# Altium schematic symbol library UWRT_Schematic_Library_2020.SchLib: 766 symbols (part 6 of 8)
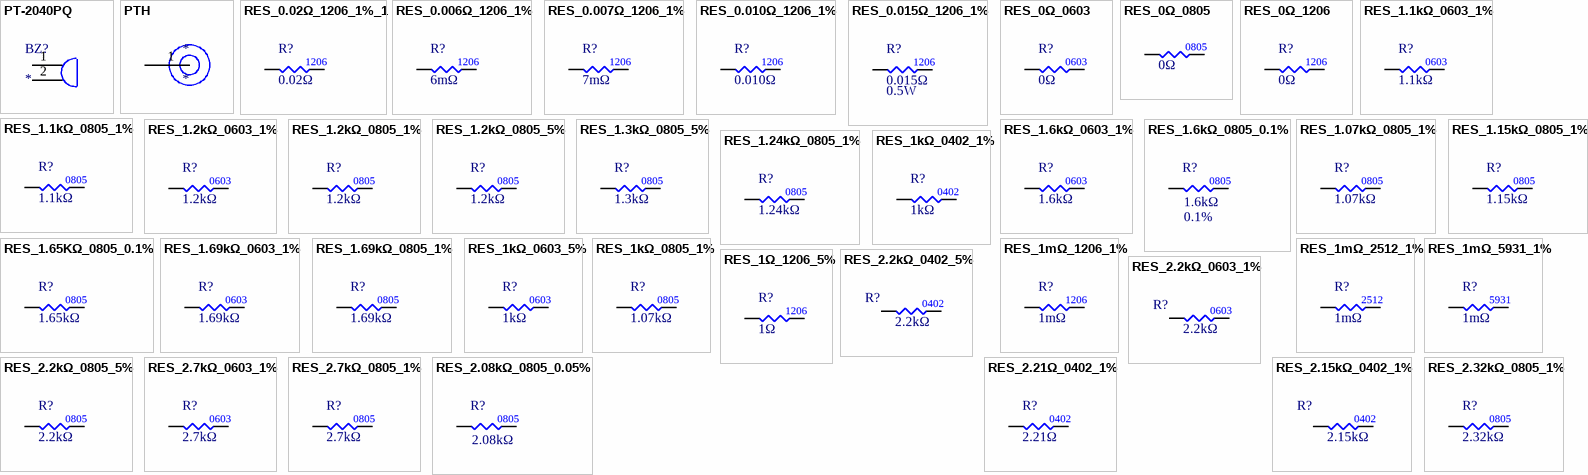
[diagram p30: symbols PT-2040PQ to RES_2.32kΩ_0805_1%]

## RES_0.007Ω_1206_1%
designator R?  value 7mΩ
RES 0.007 OHM 1% 1W 1206; Manufacturer 1: Rohm Semiconductor; Manufacturer Part Number 1: PMR18EZPFU7L00; Package/Footprint: 1206; Mounting Type: SMD; Supplier 1: Digi-Key; Supplier Part Number 1: RHM.007ALCT-ND
footprint RES1206 (Chip Resistor, Body 3.2x1.6mm, IPC Medium Density)
pins: 1, 2

## RES_0.010Ω_1206_1%
designator R?  value 0.010Ω
RES 0.01 OHM 1% 1/2W 1206; Manufacturer 1: Stackpole Electronics Inc; Manufacturer Part Number 1: CSR1206FT10L0; Package/Footprint: 1206; Mounting Type: SMD; Supplier 1: Digi-Key; Supplier Part Number 1: CSR1206FT10L0CT-ND
footprint RES1206 (Chip Resistor, Body 3.2x1.6mm, IPC Medium Density)
pins: 1, 2

## RES_0.015Ω_1206_1%
designator R?  value 0.015Ω  Power: 0.5W
RES 0.015 OHM 1% 1/2W 1206; Manufacturer 1: Yageo; Manufacturer Part Number 1: CSR1206FK15L0; Supplier Part Number 1: CSR1206FK15L0CT-ND; Supplier 1: Digi-Key
footprint RES1206 (Chip Resistor, Body 3.2x1.6mm, IPC Medium Density)
pins: 1, 2
text: 1206

## RES_0Ω_0603
designator R?  value 0Ω
RES 0 OHM JUMPER 1/10W 0603; Manufacturer 1: Yageo; Manufacturer Part Number 1: RC0603JR-070RL; Supplier Part Number 1: 311-0.0GRCT-ND; Supplier 1: Digi-Key; Mounting Type: SMD; Package: 0603
footprint RES0603 (Chip Resistor, Body 1.6x0.8mm, IPC Medium Density)
pins: 1, 2

## RES_0Ω_0805
designator R?  value 0Ω
RES 0 OHM JUMPER 1/8W 0805; Manufacturer 1: YAGEO; Manufacturer Part Number 1: RC0805JR-070RL; Package/Footprint: 0805; Supplier Part Number 1: 311-0.0ARCT-ND; Supplier 1: Digi-Key; Mounting Type: SMD
footprint RES0805 (Chip Resistor, 2-Leads, Body 2.00x1.25mm, IPC High Density)
pins: 1, 2

## RES_0Ω_1206
designator R?  value 0Ω
RES 0 OHM JUMPER 1/10W 1206; Manufacturer 1: Yageo; Manufacturer Part Number 1: RC1206JR-070RL; Package/Footprint: 1206; Supplier Part Number 1: 311-0.0ERCT-ND; Supplier 1: Digi-Key; Mounting Type: SMD
footprint RES1206 (Chip Resistor, Body 3.2x1.6mm, IPC Medium Density)
pins: 1, 2

## RES_1.1kΩ_0603_1%
designator R?  value 1.1kΩ
RES 1.1K OHM 1% 1/10W 0603; Manufacturer 1: Yageo; Manufacturer Part Number 1: RC0603FR-071K1L; Supplier Part Number 1: 311-1.10KHRCT-ND; Supplier 1: Digi-Key; Mounting Type: SMD; Package: 0603
footprint RES0603 (Chip Resistor, Body 1.6x0.8mm, IPC Medium Density)
pins: 1, 2

## RES_1.1kΩ_0805_1%
designator R?  value 1.1kΩ
RES 1.1K OHM 1% 1/8W 0805; Manufacturer 1: Yageo; Manufacturer Part Number 1: RC0805FR-071K1L; Supplier 1: Digi-Key; Supplier Part Number 1: 311-1.10KCRCT-ND
footprint RES0805 (Chip Resistor, 2-Leads, Body 2.00x1.25mm, IPC High Density)
pins: 1, 2
text: 0805

## RES_1.2kΩ_0603_1%
designator R?  value 1.2kΩ
RES 1.2K OHM 1% 1/10W 0603; Manufacturer 1: Yageo; Manufacturer Part Number 1: RC0603FR-071K2L; Supplier 1: Digi-Key; Supplier Part Number 1: 311-1.20KHRCT-ND; Package: 0603
footprint RES0603 (Chip Resistor, Body 1.6x0.8mm, IPC Medium Density)
pins: 1, 2

## RES_1.2kΩ_0805_1%
designator R?  value 1.2kΩ
RES 1.2K OHM 1% 1/8W 0805; Manufacturer 1: Samsung Electro-Mechanics; Manufacturer Part Number 1: RC2012F122CS; Supplier 1: Digi-Key; Supplier Part Number 1: 1276-5275-2-ND; Package: 0805
footprint RES0805 (Chip Resistor, 2-Leads, Body 2.00x1.25mm, IPC High Density)
pins: 1, 2

## RES_1.2kΩ_0805_5%
designator R?  value 1.2kΩ
RES 1.2K OHM 5% 1/8W 0805; Manufacturer 1: Yageo; Manufacturer Part Number 1: RC0805JR-071K2L; Supplier 1: Digi-Key; Supplier Part Number 1: 311-1.2KARCT-ND; Tolerance: 5%; Package: 0805
footprint RES0805 (Chip Resistor, 2-Leads, Body 2.00x1.25mm, IPC High Density)
pins: 1, 2
1 alternate drawing of the same symbol

## RES_1.3kΩ_0805_5%
designator R?  value 1.3kΩ
RES 1.3K OHM 5% 1/8W 0805; Manufacturer 1: Yageo; Manufacturer Part Number 1: RC0805JR-071K3L; Supplier 1: Digi-Key; Supplier Part Number 1: 311-1.3KARCT-ND; Tolerance: 5%; Package: 0805
footprint RES0805 (Chip Resistor, 2-Leads, Body 2.00x1.25mm, IPC High Density)
pins: 1, 2
1 alternate drawing of the same symbol

## RES_1.6kΩ_0603_1%
designator R?  value 1.6kΩ
RES 1.6K OHM 1% 1/4W 0603; Manufacturer 1: Panasonic; Manufacturer Part Number 1: ERJ-PA3F1601V; Supplier 1: Digi-Key; Supplier Part Number 1: P1.6KBYCT-ND; Mounting Type: SMD; Package: 0603
footprint RES0603 (Chip Resistor, Body 1.6x0.8mm, IPC Medium Density)
pins: 1, 2

## RES_1.6kΩ_0805_0.1%
designator R?  value 1.6kΩ  Tolerance: 0.1%
RES 1.6K OHM 0.1% 1/4W 0805; Manufacturer 1: Panasonic; Manufacturer Part Number 1: ERJ-PB6B1601V; Supplier 1: Digi-Key; Supplier Part Number 1: P20615CT-ND; Mounting Type: SMD
footprint RES0805 (Chip Resistor, 2-Leads, Body 2.00x1.25mm, IPC High Density)
pins: 1, 2
text: 0805

## RES_1.07kΩ_0805_1%
designator R?  value 1.07kΩ
RES 1.07K OHM 1% 1/8W 0805; Manufacturer 1: Yageo; Manufacturer Part Number 1: RC0805FR-071K07L; Supplier 1: Digi-Key; Mounting Type: SMD; Supplier Part Number 1: 311-1.07KCRCT-ND; Package: 0805
footprint RES0805 (Chip Resistor, 2-Leads, Body 2.00x1.25mm, IPC High Density)
pins: 1, 2

## RES_1.15kΩ_0805_1%
designator R?  value 1.15kΩ
RES 1.15K OHM 1% 1/8W 0805; Manufacturer 1: Yageo; Manufacturer Part Number 1: RC0805FR-071K15L; Package/Footprint: 0805; Mounting Type: SMD; Supplier 1: Digi-Key; Supplier Part Number 1: 311-1.15KCRCT-ND
footprint RES0805 (Chip Resistor, 2-Leads, Body 2.00x1.25mm, IPC High Density)
pins: 1, 2

## RES_1.24kΩ_0805_1%
designator R?  value 1.24kΩ
RES 1.24K OHM 1% 1/8W 0805; Manufacturer 1: Stackpole Electronics Inc; Manufacturer Part Number 1: RMCF0805FT1K24; Package/Footprint: 0805; Mounting Type: SMD; Supplier 1: Digi-Key; Supplier Part Number 1: RMCF0805FT1K24CT-ND
footprint RES0805 (Chip Resistor, 2-Leads, Body 2.00x1.25mm, IPC High Density)
pins: 1, 2

## RES_1.65KΩ_0805_0.1%
designator R?  value 1.65kΩ
RES 1.65K OHM 0.1% 1/4W 0805; Manufacturer 1: KOA Speer Electronics, Inc.; Manufacturer Part Number 1: RS73F2ATTD1651B; Supplier Part Number 1: 2019-RS73F2ATTD1651BCT-ND; Supplier 1: Digi-Key; Mounting Type: SMD; Package: 0805
footprint RES0603 (Chip Resistor, Body 1.6x0.8mm, IPC Medium Density)
footprint RES0805 (Chip Resistor, 2-Leads, Body 2.00x1.25mm, IPC High Density)
pins: 1, 2

## RES_1.69kΩ_0603_1%
designator R?  value 1.69kΩ
RES 1.69K OHM 1% 1/10W 0603; Manufacturer 1: Yageo; Manufacturer Part Number 1: RC0603FR-071K69L; Supplier 1: Digi-Key; Supplier Part Number 1: 311-1.69KHRCT-ND
footprint RES0603 (Chip Resistor, Body 1.6x0.8mm, IPC Medium Density)
pins: 1, 2
text: 0603

## RES_1.69kΩ_0805_1%
designator R?  value 1.69kΩ
RES 1.69K OHM 1% 1/8W 0805; Manufacturer 1: Stackpole Electronics Inc; Manufacturer Part Number 1: RMCF0805FT1K69; Supplier 1: Digi-Key; Supplier Part Number 1: RMCF0805FT1K69CT-ND; Mounting Type: SMD; LCSC Part #: C48183; Package: 0805
footprint RES0805 (Chip Resistor, 2-Leads, Body 2.00x1.25mm, IPC High Density)
pins: 1, 2

## RES_1kΩ_0402_1%
designator R?  value 1kΩ
RES 1K OHM 1% 1/16W 0402; Manufacturer 1: Stackpole Electronics; Manufacturer Part Number 1: RMCF0402FT1K00; Supplier 1: Digi-Key; Supplier Part Number 1: RMCF0402FT1K00CT-ND; Tolerance: 1%; Package: 0402
footprint RES0402
pins: 1, 2

## RES_1kΩ_0603_5%
designator R?  value 1kΩ
RES 1K OHM 5% 1/10W 0603; Manufacturer 1: Yageo; Manufacturer Part Number 1: RC0603JR-071KL; Supplier Part Number 1: 311-1.0KGRCT-ND; Supplier 1: Digi-Key; Mounting Type: SMD; Package: 0603
footprint RES0603 (Chip Resistor, Body 1.6x0.8mm, IPC Medium Density)
pins: 1, 2

## RES_1kΩ_0805_1%
designator R?  value 1.07kΩ
RES 1K OHM 1% 1/8W 0805; Manufacturer 1: Yageo; Manufacturer Part Number 1: RC0805FR-071K07L; Supplier 1: Digi-Key; Mounting Type: SMD; Supplier Part Number 1: 311-1.07KCRCT-ND; Package: 0805
footprint RES0805 (Chip Resistor, 2-Leads, Body 2.00x1.25mm, IPC High Density)
pins: 1, 2

## RES_1mΩ_1206_1%
designator R?  value 1mΩ
RES 0.001 OHM 1% 1W 1206; Manufacturer 1: Delta Electronics/Cyntec; Manufacturer Part Number 1: RL1632T4F-R001-FNH; Package/Footprint: 1206; Mounting Type: SMD; Supplier 1: Digi-Key; Supplier Part Number 1: 2037-RL1632T4F-R001-FNHCT-ND
footprint RESC3116X65N
pins: 1, 2

## RES_1mΩ_2512_1%
designator R?  value 1mΩ
RES 1 mOHM 1% 3W 2512; Manufacturer 1: Riedon; Manufacturer Part Number 1: CSRL3-0R001F8; Supplier 1: Digi-Key; Supplier Part Number 1: 696-1834-1-ND; Mounting Type: SMD; Package: 2512
footprint RESC6532X75N
pins: 1, 2

## RES_1mΩ_5931_1%
designator R?  value 1mΩ
RES 0.001 OHM 1% 10W 5931; Manufacturer 1: Vishay Dale; Manufacturer Part Number 1: WSLP59311L000FEA; Supplier Part Number 1: 541-10012-1-ND; Supplier 1: Digi-Key; Mounting Type: SMD; Package: 5931
footprint RES-5931
pins: 1, 2

## RES_1Ω_1206_5%
designator R?  value 1Ω
RES 1 OHM 5% 1/4W 1206; Manufacturer 1: KOA Speer Electronics, Inc.; Manufacturer Part Number 1: RK73B2BTTE1R0J; Supplier 1: Digi-Key; Supplier Part Number 1: 2019-RK73B2BTTE1R0JCT-ND; Mounting Type: SMD; Package: 1206
footprint RES1206 (Chip Resistor, Body 3.2x1.6mm, IPC Medium Density)
pins: 1, 2

## RES_2.2kΩ_0402_5%
designator R?  value 2.2kΩ
RES 2.2K OHM 5% 1/10W 0402; Manufacturer 1: Panasonic Electronic Components; Manufacturer Part Number 1: ERJ-2GEJ222X; Supplier Part Number 1: P2.2KJCT-ND; Supplier 1: Digi-Key; Mounting Type: SMD; Package: 0402
footprint RES0402 (Chip Resistor, Body 1x0.5mm, IPC Medium Density)
pins: 1, 2

## RES_2.2kΩ_0603_1%
designator R?  value 2.2kΩ
RES 2.2K OHM 1% 1/10W 0603; Manufacturer 1: Yageo; Manufacturer Part Number 1: RC0603FR-072K2L; Supplier Part Number 1: 311-2.20KHRCT-ND; Supplier 1: Digi-Key; Mounting Type: SMD; Package: 0603
footprint RES0603 (Chip Resistor, Body 1.6x0.8mm, IPC Medium Density)
pins: 1, 2

## RES_2.2kΩ_0805_5%
designator R?  value 2.2kΩ
RES 2.2K OHM 5% 1/8W 0805; Manufacturer 1: Vishay Dale; Manufacturer Part Number 1: CRCW08052K20JNEAC; Supplier 1: Digi-Key; Supplier Part Number 1: 541-4169-1-ND; Tolerance: 5%; Package: 0805
footprint RES0805 (Chip Resistor, 2-Leads, Body 2.00x1.25mm, IPC High Density)
pins: 1, 2
1 alternate drawing of the same symbol

## RES_2.7kΩ_0603_1%
designator R?  value 2.7kΩ
RES 2.7K OHM 1% 1/10W 0603; Manufacturer 1: Yageo; Manufacturer Part Number 1: AC0603FR-072K7L; Supplier 1: Digi-Key; Supplier Part Number 1: YAG3589CT-ND
footprint RES0603 (Chip Resistor, Body 1.6x0.8mm, IPC Medium Density)
pins: 1, 2
text: 0603

## RES_2.7kΩ_0805_1%
designator R?  value 2.7kΩ
RES 2.7K OHM 1% 1/8W 0805; Manufacturer 1: Panasonic Electronic Components; Manufacturer Part Number 1: ERJ-6ENF2701V; Supplier 1: Digi-Key; Supplier Part Number 1: P2.70KCCT-ND; Mounting Type: SMD; LCSC Part #: C17530; Package: 0805
footprint RES0805 (Chip Resistor, 2-Leads, Body 2.00x1.25mm, IPC High Density)
pins: 1, 2

## RES_2.08kΩ_0805_0.05%
designator R?  value 2.08kΩ
RES 2.08K OHM 0.05% 1/8W 0805; Manufacturer 1: KOA Speer Electronics, Inc.; Manufacturer Part Number 1: RN73R2ATTD2081A10; Package/Footprint: 0805; Supplier 1: Digi-Key; Mounting Type: SMD; Supplier Part Number 1: 2019-RN73R2ATTD2081A10CT-ND
footprint RES0805 (Chip Resistor, 2-Leads, Body 2.00x1.25mm, IPC High Density)
pins: 1, 2

## RES_2.15kΩ_0402_1%
designator R?  value 2.15kΩ
RES 2.15K OHM 1% 1/16W 0402; Manufacturer Part Number 1: RC0402FR-072K15L; Manufacturer 1: Yageo; Power: 0.063W, 1/16W; Package/Footprint: 0402; Supplier 1: Digi-Key; Supplier Part Number 1: YAG3097CT-ND; Mounting Type: SMD; Tolerance: 1%
footprint RES0402 (Chip Resistor, Body 1x0.5mm, IPC Medium Density)
pins: 1, 2

## RES_2.21Ω_0402_1%
designator R?  value 2.21Ω
RES 2.21 OHM 1% 1/16W 0402; Manufacturer Part Number 1: RMCF0402FT2R21; Manufacturer 1: Yageo; Power: 0.063W, 1/16W; Package/Footprint: 0402; Supplier 1: Digi-Key; Supplier Part Number 1: RMCF0402FT2R21CT-ND; Mounting Type: SMD; Tolerance: 1%
footprint RES0402 (Chip Resistor, Body 1x0.5mm, IPC Medium Density)
pins: 1, 2

## RES_2.32kΩ_0805_1%
designator R?  value 2.32kΩ
RES 2.32K OHM 1% 1/4W 0805; Manufacturer 1: Stackpole Electronics Inc; Manufacturer Part Number 1: RNCP0805FTD2K32; Supplier 1: Digi-Key; Supplier Part Number 1: RNCP0805FTD2K32CT-ND; Package: 0805
footprint RES0805 (Chip Resistor, 2-Leads, Body 2.00x1.25mm, IPC High Density)
pins: 1, 2

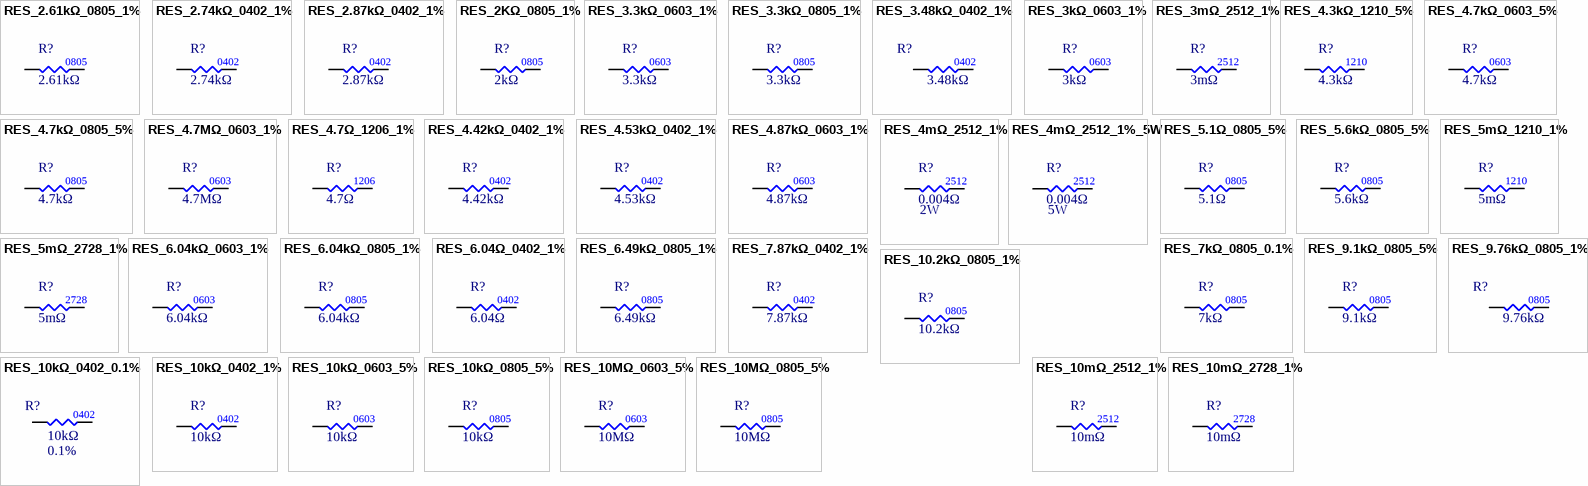
[diagram p18: symbols RES_2.61kΩ_0805_1% to RES_10mΩ_2728_1%]

## RES_2.61kΩ_0805_1%
designator R?  value 2.61kΩ
RES 2.61K OHM 1% 1/8W 0805; Manufacturer 1: Vishay Dale; Manufacturer Part Number 1: RC0805FR-072K61L; Package/Footprint: 0805; Supplier 1: Digi-Key; Mounting Type: SMD; Supplier Part Number 1: 311-2.61KCRCT-ND
footprint RES0805 (Chip Resistor, 2-Leads, Body 2.00x1.25mm, IPC High Density)
pins: 1, 2

## RES_2.74kΩ_0402_1%
designator R?  value 2.74kΩ
RES 2.74K OHM 1% 1/16W 0402; Manufacturer Part Number 1: RMCF0402FT2K74; Manufacturer 1: Stackpole Electronics Inc; Power: 0.063W, 1/16W; Package/Footprint: 0402; Supplier 1: Digi-Key; Supplier Part Number 1: RMCF0402FT2K74CT-ND; Mounting Type: SMD; Tolerance: 1%
footprint RES0402 (Chip Resistor, Body 1x0.5mm, IPC Medium Density)
pins: 1, 2

## RES_2.87kΩ_0402_1%
designator R?  value 2.87kΩ
RES SMD 2.87K OHM 1% 1/16W 0402; Manufacturer 1: Yageo; Manufacturer Part Number 1: RC0402FR-072K87L; Package/Footprint: 0402; Supplier 1: Digi-Key; Supplier Part Number 1: YAG3105CT-ND; Tolerance: 1%
footprint RES0402 (Chip Resistor, Body 1x0.5mm, IPC Medium Density)
pins: 1, 2

## RES_2KΩ_0805_1%
designator R?  value 2kΩ
RES 2K OHM 1% 1/8W 0805; Manufacturer 1: YAGEO; Manufacturer Part Number 1: CRCW08052K20JNEAC; Supplier 1: Digi-Key; Supplier Part Number 1: 13-RC0805FR-132KLCT-ND; Tolerance: 1%; Package: 0805
footprint RES0805 (Chip Resistor, 2-Leads, Body 2.00x1.25mm, IPC High Density)
pins: 1, 2
1 alternate drawing of the same symbol

## RES_3.3kΩ_0603_1%
designator R?  value 3.3kΩ
RES 3.3K OHM 1% 1/10W 0603; Manufacturer 1: Yageo; Manufacturer Part Number 1: RT0603FRE073K3L; Supplier 1: Digi-Key; Supplier Part Number 1: YAG3354CT-ND; Mounting Type: SMD; Package: 0603
footprint RES0603 (Chip Resistor, Body 1.6x0.8mm, IPC Medium Density)
pins: 1, 2

## RES_3.3kΩ_0805_1%
designator R?  value 3.3kΩ
RES 3.3K OHM 1% 1/8W 0805; Manufacturer 1: Vishay Dale; Manufacturer Part Number 1: CRCW06033K30FKEA; Mounting Type: SMD; Supplier 1: Digi-Key; Supplier Part Number 1: 541-3.30KHCT-ND; LCSC Part #: C26010; Package: 0805
footprint RES0805 (Chip Resistor, 2-Leads, Body 2.00x1.25mm, IPC High Density)
pins: 1, 2

## RES_3.48kΩ_0402_1%
designator R?  value 3.48kΩ
RES 3.48K OHM 1% 1/16W 0402; Manufacturer Part Number 1: RC0402FR-073K48L; Manufacturer 1: Vishay Dale; Power: 0.063W, 1/16W; Supplier 1: Digi-Key; Supplier Part Number 1: YAG3148CT-ND; Mounting Type: SMD; Package: 0402; Tolerance: 1%
footprint RES0402 (Chip Resistor, Body 1x0.5mm, IPC Medium Density)
pins: 1, 2

## RES_3kΩ_0603_1%
designator R?  value 3kΩ
RES 3K OHM 1% 1/10W 0603; Manufacturer 1: Yageo; Manufacturer Part Number 1: RC0603FR-073KL; Supplier 1: Digi-Key; Supplier Part Number 1: 311-3.00KHRCT-ND
footprint RES0603 (Chip Resistor, Body 1.6x0.8mm, IPC Medium Density)
pins: 1, 2
text: 0603

## RES_3mΩ_2512_1%
designator R?  value 3mΩ
RES 3 mOHM 1% 3W 2512; Manufacturer 1: Yageo; Manufacturer Part Number 1: PA2512FKF7T0R003E; Supplier 1: Digi-Key; Supplier Part Number 1: YAG5998CT-ND
pins: 1, 2
text: 2512

## RES_4.3kΩ_1210_5%
designator R?  value 4.3kΩ
RES 4.3K OHM 5% 1/2W 1210; Manufacturer 1: Panasonic; Manufacturer Part Number 1: ERJ-14YJ432U; Supplier 1: Digi-Key; Mounting Type: SMD; Tolerance: 5%; Supplier Part Number 1: P4.3KVCT-ND; Package: 1210
footprint RES1210 (Chip Resistor, Body 3.20x2.50mm)
pins: 1, 2

## RES_4.7kΩ_0603_5%
designator R?  value 4.7kΩ
RES 4.7K OHM 5% 1/10W 0603; Manufacturer 1: Yageo; Manufacturer Part Number 1: RC0603JR-074K7L; Supplier Part Number 1: 311-4.7KGRCT-ND; Supplier 1: Digi-Key
footprint RES0603 (Chip Resistor, Body 1.6x0.8mm, IPC Medium Density)
pins: 1, 2
text: 0603

## RES_4.7kΩ_0805_5%
designator R?  value 4.7kΩ
RES 4.7K OHM 5% 1/8W 0805; Manufacturer 1: Yageo; Manufacturer Part Number 1: RC0805JR-074K7L; Supplier 1: Digi-Key; Supplier Part Number 1: 311-4.7KARCT-ND; Mounting Type: SMD; LCSC Part #: C17673; Package: 0805
footprint RES0805 (Chip Resistor, 2-Leads, Body 2.00x1.25mm, IPC High Density)
pins: 1, 2

## RES_4.7MΩ_0603_1%
designator R?  value 4.7MΩ
RES 4.7M OHM 1% 1/10W 0603; Manufacturer Part Number 1: RC0603FR-074M7L; Manufacturer 1: Yageo; Supplier Part Number 1: 311-4.70MHRCT-ND; Supplier 1: Digi-Key
footprint RES0603 (Chip Resistor, Body 1.6x0.8mm, IPC Medium Density)
pins: 1, 2
text: 0603

## RES_4.7Ω_1206_1%
designator R?  value 4.7Ω
RES 4.7 OHM 1% 1/2W 1206; Manufacturer 1: Stackpole Electronics Inc; Manufacturer Part Number 1: RNCP1206FTD4R70; Package/Footprint: 1206; Mounting Type: SMD; Supplier 1: Digi-Key; Supplier Part Number 1: RNCP1206FTD4R70CT-ND
footprint RES1206 (Chip Resistor, Body 3.2x1.6mm, IPC Medium Density)
pins: 1, 2

## RES_4.42kΩ_0402_1%
designator R?  value 4.42kΩ
RES 4.42K OHM 1% 1/16W 0402; Manufacturer Part Number 1: RMCF0402FT4K42; Manufacturer 1: Stackpole Electronics Inc; Power: 0.063W, 1/16W; Package/Footprint: 0402; Supplier 1: Digi-Key; Supplier Part Number 1: RMCF0402FT4K42CT-ND; Mounting Type: SMD; Tolerance: 1%
footprint RES0402 (Chip Resistor, Body 1x0.5mm, IPC Medium Density)
pins: 1, 2

## RES_4.53kΩ_0402_1%
designator R?  value 4.53kΩ
RES 4.53K OHM 1% 1/16W 0402; Manufacturer 1: Yageo; Manufacturer Part Number 1: RC0402FR-074K53L; Supplier 1: Digi-Key; Supplier Part Number 1: 311-4.53KLRCT-ND; Package: 0402; Tolerance: 1%
footprint RES0402 (Chip Resistor, Body 1x0.5mm, IPC Medium Density)
pins: 1, 2

## RES_4.87kΩ_0603_1%
designator R?  value 4.87kΩ
RES 4.87K OHM 1% 1/8W 0603; Manufacturer 1: Stackpole Electronics Inc; Manufacturer Part Number 1: RNCP0603FTD4K87; Supplier 1: Digi-Key; Mounting Type: SMD; Supplier Part Number 1: RNCP0603FTD4K87CT-ND; Package: 0603
footprint RES0603 (Chip Resistor, Body 1.6x0.8mm, IPC Medium Density)
pins: 1, 2

## RES_4mΩ_2512_1%
designator R?  value 0.004Ω  Power: 2W
RES 0.004 OHM 1% 2W 2512; Manufacturer 1: Thin Film Technology Corp.; Manufacturer Part Number 1: D1MPAB2512QR004FA-T4; Supplier 1: Digi-Key; Supplier Part Number 1: 4463-D1MPAB2512QR004FA-T4CT-ND
footprint RESC6532X75N
pins: 1, 2
text: 2512

## RES_4mΩ_2512_1%_5W
designator R?  value 0.004Ω  Power: 5W
RES 0.004 OHM 1% 2W 2512; Manufacturer 1: KOA Speer Electronics, Inc.; Manufacturer Part Number 1: TLR3APDTE4L00F50; Supplier 1: Digi-Key; Supplier Part Number 1: 2019-TLR3APDTE4L00F50CT-ND
footprint RESC6532X75N
pins: 1, 2
text: 2512

## RES_5.1Ω_0805_5%
designator R?  value 5.1Ω
RES 5.1 OHM 5% 1/8W 0805; Manufacturer 1: Panasonic; Manufacturer Part Number 1: ERJ-6GEYJ5R1V; Supplier 1: Digi-Key; Supplier Part Number 1: P5.1ACT-ND
footprint RES0805 (Chip Resistor, 2-Leads, Body 2.00x1.25mm, IPC High Density)
pins: 1, 2
1 alternate drawing of the same symbol
text: 0805

## RES_5.6kΩ_0805_5%
designator R?  value 5.6kΩ
RES 5.6K OHM 5% 1/8W 0805; Manufacturer 1: Yageo; Manufacturer Part Number 1: RC0805JR-075K6L; Supplier 1: Digi-Key; Supplier Part Number 1: 311-5.6KARCT-ND; Tolerance: 5%; Package: 0805
footprint RES0805 (Chip Resistor, 2-Leads, Body 2.00x1.25mm, IPC High Density)
pins: 1, 2
1 alternate drawing of the same symbol

## RES_5mΩ_1210_1%
designator R?  value 5mΩ
RES 0.005 OHM 1% 1W 1210; Manufacturer 1: Rohm Semiconductor; Manufacturer Part Number 1: PMR25HZPFU5L00; Package/Footprint: 1210; Mounting Type: SMD; Supplier 1: Digi-Key; Supplier Part Number 1: RHM.005APCT-ND
footprint RES1210 (Chip Resistor, Body 3.20x2.50mm)
pins: 1, 2

## RES_5mΩ_2728_1%
designator R?  value 5mΩ
RES 0.005 OHM 1% 4W 2827; Manufacturer 1: Stackpole Electronics Inc; Manufacturer Part Number 1: CSSH2728FT5L00; Package/Footprint: 2728; Mounting Type: SMD; Supplier 1: Digi-Key; Supplier Part Number 1: CSSH2728FT5L00CT-ND
footprint STA_CSSH2728_STP-M
pins: 1, 2

## RES_6.04kΩ_0603_1%
designator R?  value 6.04kΩ
RES 6.04K OHM 1% 1/10W 0603; Manufacturer 1: Panasonic Electronic Components; Manufacturer Part Number 1: ERJ-PB3D6041V; Package/Footprint: 0603; Mounting Type: SMD; Supplier 1: Digi-Key; Supplier Part Number 1: P20372CT-ND
footprint RES0603 (Chip Resistor, Body 1.6x0.8mm, IPC Medium Density)
pins: 1, 2

## RES_6.04kΩ_0805_1%
designator R?  value 6.04kΩ
RES 6.04K OHM 1% 1/8W 0805; Manufacturer 1: Yageo; Manufacturer Part Number 1: RC0805FR-076K04L; Package/Footprint: 0805; Mounting Type: SMD; Supplier 1: Digi-Key; Supplier Part Number 1: 311-6.04KCRCT-ND
footprint RES0805 (Chip Resistor, 2-Leads, Body 2.00x1.25mm, IPC High Density)
pins: 1, 2

## RES_6.04Ω_0402_1%
designator R?  value 6.04Ω
RES 6.04 OHM 1% 1/16W 0402; Manufacturer Part Number 1: RMCF0402FT6R04; Manufacturer 1: Stackpole Electronics Inc; Power: 0.063W, 1/16W; Supplier 1: Digi-Key; Supplier Part Number 1: RMCF0402FT6R04CT-ND; Mounting Type: SMD; Package: 0402; Tolerance: 1%
footprint RES0402 (Chip Resistor, Body 1x0.5mm, IPC Medium Density)
pins: 1, 2

## RES_6.49kΩ_0805_1%
designator R?  value 6.49kΩ
RES 6.49K OHM 1% 1/8W 0805; Manufacturer 1: Yageo; Manufacturer Part Number 1: RC0805FR-076K49L; Package/Footprint: 0805; Mounting Type: SMD; Supplier 1: Digi-Key; Supplier Part Number 1: 311-6.49KCRCT-ND
footprint RES0805 (Chip Resistor, 2-Leads, Body 2.00x1.25mm, IPC High Density)
pins: 1, 2

## RES_7.87kΩ_0402_1%
designator R?  value 7.87kΩ
RES 7.87K OHM 1% 1/16W 0402; Manufacturer Part Number 1: RMCF0402FT7K87; Manufacturer 1: Vishay Dale; Power: 0.063W, 1/16W; Supplier 1: Digi-Key; Supplier Part Number 1: RMCF0402FT7K87CT-ND; Mounting Type: SMD; Package: 0402; Tolerance: 1%
footprint RES0402 (Chip Resistor, Body 1x0.5mm, IPC Medium Density)
pins: 1, 2

## RES_7kΩ_0805_0.1%
designator R?  value 7kΩ
RES 7K OHM 0.1% 1/5W 0805; Manufacturer 1: Panasonic Electronic Components; Manufacturer Part Number 1: ERJ-6GEYJ103V; Part Number: Y16247K00000B9R-ND; Package/Footprint: 0805; Power: 0.2W, 1/5W; Supplier 1: Digi-Key; Supplier Part Number 1: P10KACT-ND; LCSC Part #: C17414; Mounting Type: SMD
footprint RES0805 (Chip Resistor, 2-Leads, Body 2.00x1.25mm, IPC High Density)
pins: 1, 2

## RES_9.1kΩ_0805_5%
designator R?  value 9.1kΩ
RES 9.1K OHM 5% 1/8W 0805; Manufacturer 1: Yageo; Manufacturer Part Number 1: RC0805JR-079K1L; Supplier 1: Digi-Key; Supplier Part Number 1: 311-9.1KARCT-ND; Tolerance: 5%; Package: 0805
footprint RES0805 (Chip Resistor, 2-Leads, Body 2.00x1.25mm, IPC High Density)
pins: 1, 2
1 alternate drawing of the same symbol

## RES_9.76kΩ_0805_1%
designator R?  value 9.76kΩ
RES 9.76K OHM 1% 1/8W 0805; Manufacturer 1: YAGEO; Manufacturer Part Number 1: RC0805FR-079K76L; Package/Footprint: 0805; Supplier Part Number 1: 311-9.76KCRCT-ND; Supplier 1: Digi-Key; Mounting Type: SMD
footprint RES0805 (Chip Resistor, 2-Leads, Body 2.00x1.25mm, IPC High Density)
pins: 1, 2

## RES_10.2kΩ_0805_1%
designator R?  value 10.2kΩ
RES 10.2K OHM 1% 1/8W 0805; Manufacturer 1: Vishay; Manufacturer Part Number 1: CRCW080510K2FKEA; Package/Footprint: 0805; Supplier 1: Digi-Key; Supplier Part Number 1: 541-10.2KCCT-ND; LCSC Part #: C17402; Mounting Type: SMD
pins: 1, 2

## RES_10kΩ_0402_0.1%
designator R?  value 10kΩ  Tolerance: 0.1%
RES 10K OHM 0.1% 1/16W 0402; Parameter 1: Digi-Key; Parameter 2: RNCF0402BTE10K0CT-ND; Parameter 3: Stackpole Electronics Inc; Parameter 4: RNCF0402BTE10K0; Package: 0402
pins: 1, 2

## RES_10kΩ_0402_1%
designator R?  Resistance: 10kΩ
RES 10K OHM 1% 1/16W 0402; Manufacturer 1: Samsung Electro-Mechanics; Manufacturer Part Number 1: RC1005F103CS; Supplier 1: Digi-Key; Supplier Part Number 1: 1276-3431-1-ND; Package: 0402; Tolerance: 1%
footprint RES0402 (Chip Resistor, Body 1x0.5mm, IPC Medium Density)
pins: 1, 2

## RES_10kΩ_0603_5%
designator R?  value 10kΩ
RES 10K OHM 5% 1/10W 0603; Manufacturer 1: Yageo; Manufacturer Part Number 1: RC0603JR-0710KL; Supplier Part Number 1: 311-10KGRCT-ND; Supplier 1: Digi-Key; Mounting Type: SMD; Package: 0603
footprint RES0603 (Chip Resistor, Body 1.6x0.8mm, IPC Medium Density)
pins: 1, 2

## RES_10kΩ_0805_5%
designator R?  value 10kΩ
RES 10K OHM 5% 1/8W 0805; Manufacturer 1: Panasonic Electronic Components; Manufacturer Part Number 1: ERJ-6GEYJ103V; Package/Footprint: 0805; Supplier 1: Digi-Key; Supplier Part Number 1: P10KACT-ND; LCSC Part #: C17414; Mounting Type: SMD
footprint RES0805 (Chip Resistor, 2-Leads, Body 2.00x1.25mm, IPC High Density)
pins: 1, 2

## RES_10MΩ_0603_5%
designator R?  value 10MΩ
RES 10M OHM 5% 1/10W 0603; Manufacturer 1: Vishay Dale; Manufacturer Part Number 1: CRCW060310M0JNEA; Supplier Part Number 1: 541-10MGCT-ND; Supplier 1: Digi-Key
footprint RES0603 (Chip Resistor, Body 1.6x0.8mm, IPC Medium Density)
pins: 1, 2
text: 0603

## RES_10MΩ_0805_5%
designator R?  value 10MΩ
RES 10M OHM 5% 1/8W 0805; Manufacturer 1: Yageo; Manufacturer Part Number 1: RC0805JR-0710ML; Supplier Part Number 1: 311-10MARCT-ND; Supplier 1: Digi-Key
footprint RES0805 (Chip Resistor, 2-Leads, Body 2.00x1.25mm, IPC High Density)
pins: 1, 2
text: 0805

## RES_10mΩ_2512_1%
designator R?  value 10mΩ
RES 10 mOHM 1% 2W 2512; Manufacturer 1: Yageo; Manufacturer Part Number 1: PE2512FKE7W0R01L; Supplier 1: Digi-Key; Supplier Part Number 1: YAG2167CT-ND
footprint RESC6532X75N
pins: 1, 2
text: 2512

## RES_10mΩ_2728_1%
designator R?  value 10mΩ
RES 10mOHM 1% 4W 2728; Manufacturer 1: Yageo; Manufacturer Part Number 1: RC0603FR-07698KL; Supplier Part Number 1: CSSH2728FT10L0DKR-ND; Supplier 1: Digi-Key
footprint STAC-CSS2725-099H_V (Chip Resistor, 2-Leads, Body 7.06x6.7mm)
pins: 1, 2
text: 2728

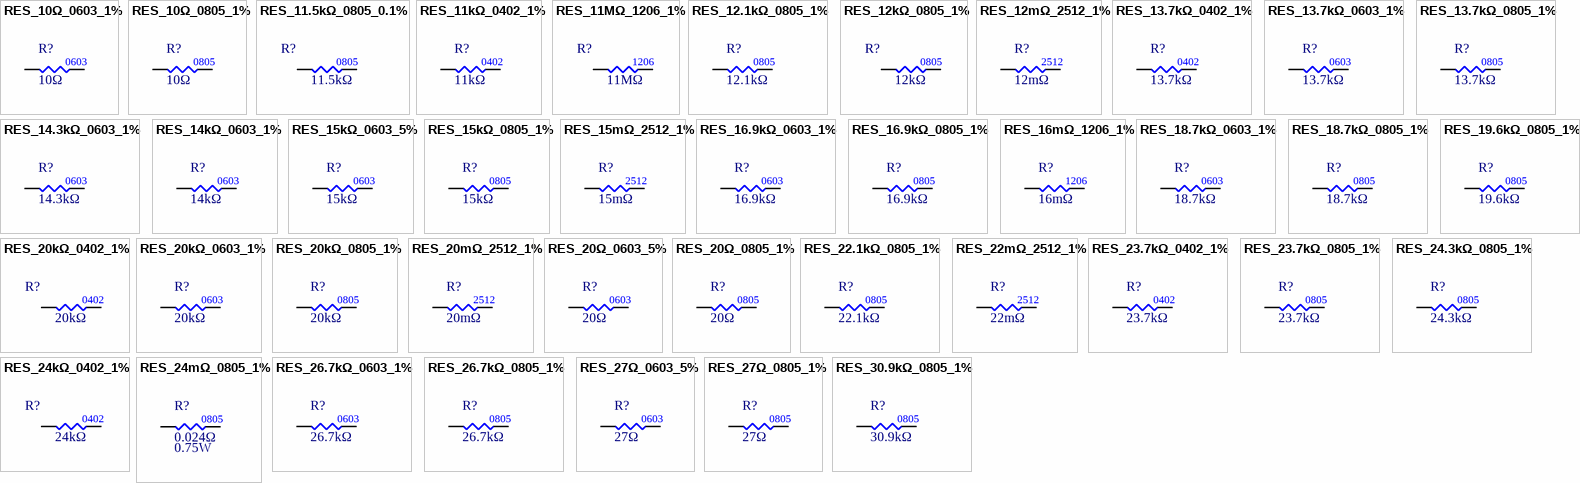
[diagram p19: symbols RES_10Ω_0603_1% to RES_30.9kΩ_0805_1%]

## RES_10Ω_0603_1%
designator R?  value 10Ω
RES 10 OHM 1% 1/10W 0603; Manufacturer 1: Vishay Dale; Manufacturer Part Number 1: CRCW060310R0FKEA; Supplier Part Number 1: 541-10.0HCT-ND; Supplier 1: Digi-Key
footprint RES0603 (Chip Resistor, Body 1.6x0.8mm, IPC Medium Density)
pins: 1, 2
text: 0603

## RES_10Ω_0805_1%
designator R?  value 10Ω
RES 10 OHM 1% 1/8W 0805; Manufacturer 1: Yageo; Manufacturer Part Number 1: RC0805FR-0710RL; Supplier Part Number 1: 311-10.0CRCT-ND; Supplier 1: Digi-Key; Mounting Type: SMD; LCSC Part #: C17415; Package: 0805
footprint RES0805 (Chip Resistor, 2-Leads, Body 2.00x1.25mm, IPC High Density)
pins: 1, 2

## RES_11.5kΩ_0805_0.1%
designator R?  value 11.5kΩ
RES 11.5K OHM 0.1% 1/10W 0805; Manufacturer 1: TE Connectivity Passive Product; Manufacturer Part Number 1: RN73C2A11K5BTDF; Package/Footprint: 0805; Supplier Part Number 1: A103292DKR-ND; Supplier 1: Digi-Key; Mounting Type: SMD
footprint RES0805 (Chip Resistor, 2-Leads, Body 2.00x1.25mm, IPC High Density)
pins: 1, 2

## RES_11kΩ_0402_1%
designator R?  value 11kΩ
RES 11K OHM 1% 1/16W 0402; Manufacturer Part Number 1: RMCF0402FT11K0; Manufacturer 1: Stackpole Electronics Inc; Power: 0.063W, 1/16W; Package/Footprint: 0402; Supplier 1: Digi-Key; Supplier Part Number 1: RMCF0402FT11K0CT-ND; Mounting Type: SMD; Tolerance: 1%
footprint RES0402 (Chip Resistor, Body 1x0.5mm, IPC Medium Density)
pins: 1, 2

## RES_11MΩ_1206_1%
designator R?  value 11MΩ
11 MOhms ±1% 0.25W, 1/4W Chip Resistor 1206 (3216 Metric) High Voltage, Moisture Resistant Thick Film; Manufacturer 1: YAGEO; Manufacturer Part Number 1: RV1206FR-0711ML; Package/Footprint: 1206; Mounting Type: SMD; ComponentLink1Description: digikey; ComponentLink1URL: https://www.digikey.ca/en/products/detail/yageo/RV1206FR-0711ML/17026349; Supplier 1: DigiKey; Supplier Part Number 1: 13-RV1206FR-0711MLCT-ND
footprint RESC3116X65N
pins: 1, 2

## RES_12.1kΩ_0805_1%
designator R?  value 12.1kΩ
RES 12.1K OHM 1% 1/4W 0805; Manufacturer 1: Stackpole Electronics Inc; Manufacturer Part Number 1: RNCP0805FTD12K1; Supplier 1: Digi-Key; Supplier Part Number 1: RNCP0805FTD12K1CT-ND; Package: 0805
footprint RES0805 (Chip Resistor, 2-Leads, Body 2.00x1.25mm, IPC High Density)
pins: 1, 2

## RES_12kΩ_0805_1%
designator R?  value 12kΩ
RES 12K OHM 1% 1/8W 0805; Manufacturer 1: YAGEO; Manufacturer Part Number 1: RC0805FR-0712KL; Package/Footprint: 0805; Supplier Part Number 1: 311-12.0KCRCT-ND; Supplier 1: Digi-Key; Mounting Type: SMD
footprint RES0805 (Chip Resistor, 2-Leads, Body 2.00x1.25mm, IPC High Density)
pins: 1, 2

## RES_12mΩ_2512_1%
designator R?  value 12mΩ
RES 12 mOHM 1% 2W 2512; Manufacturer 1: Yageo; Manufacturer Part Number 1: PE2512FKE7W0R012L; Supplier 1: Digi-Key; Supplier Part Number 1: YAG2164CT-ND
footprint RESC6532X75N
pins: 1, 2
text: 2512

## RES_13.7kΩ_0402_1%
designator R?  value 13.7kΩ
RES 13.7K OHM 1% 1/16W 0402; Manufacturer Part Number 1: RC0402FR-0713K7L; Manufacturer 1: Yageo; Power: 0.063W, 1/16W; Package/Footprint: 0402; Supplier 1: Digi-Key; Supplier Part Number 1: 311-13.7KLRCT-ND; Mounting Type: SMD; Tolerance: 1%
footprint RES0402 (Chip Resistor, Body 1x0.5mm, IPC Medium Density)
pins: 1, 2

## RES_13.7kΩ_0603_1%
designator R?  value 13.7kΩ
RES 13.7K OHM 1% 1/10W 0603; Manufacturer 1: Yageo; Manufacturer Part Number 1: RC0603FR-0713K7L; Supplier 1: Digi-Key; Supplier Part Number 1: 311-13.7KHRCT-ND
footprint RES0603 (Chip Resistor, Body 1.6x0.8mm, IPC Medium Density)
pins: 1, 2
text: 0603

## RES_13.7kΩ_0805_1%
designator R?  value 13.7kΩ
RES 13.7K OHM 1% 1/8W 0805; Manufacturer 1: Vishay; Manufacturer Part Number 1: CRCW080513K7FKEA; Supplier 1: Digi-Key; Supplier Part Number 1: 541-13.7KCCT-ND; LCSC Part #: C17448; Mounting Type: SMD; Package: 0805
footprint RES0805 (Chip Resistor, 2-Leads, Body 2.00x1.25mm, IPC High Density)
pins: 1, 2

## RES_14.3kΩ_0603_1%
designator R?  value 14.3kΩ
RES 14.3K OHM 1% 1/10W 0603; Manufacturer 1: Yageo; Manufacturer Part Number 1: RC0603FR-0714K3L; Package/Footprint: 0603; Supplier Part Number 1: 311-14.3KHRCT-ND; Supplier 1: Digi-Key; Mounting Type: SMD
footprint RES0603 (Chip Resistor, Body 1.6x0.8mm, IPC Medium Density)
pins: 1, 2

## RES_14kΩ_0603_1%
designator R?  value 14kΩ
RES 14K OHM 1% 1/10W 0603; Manufacturer 1: Yageo; Manufacturer Part Number 1: RC0603FR-0714KL; Supplier Part Number 1: 311-14.0KHRCT-ND; Supplier 1: Digi-Key
footprint RES0603 (Chip Resistor, Body 1.6x0.8mm, IPC Medium Density)
pins: 1, 2
text: 0603

## RES_15kΩ_0603_5%
designator R?  value 15kΩ
RES 15K OHM 5% 1/10W 0603; Manufacturer 1: Yageo; Manufacturer Part Number 1: RC0603JR-0715KL; Supplier Part Number 1: 311-15KGRCT-ND; Supplier 1: Digi-Key
footprint RES0603 (Chip Resistor, Body 1.6x0.8mm, IPC Medium Density)
pins: 1, 2
text: 0603

## RES_15kΩ_0805_1%
designator R?  value 15kΩ
RES 15K OHM 1% 1/8W 0805 /; Manufacturer 1: Vishay Dale; Manufacturer Part Number 1: CRCW080515K0FKEA; Supplier Part Number 1: 541-15.0KCCT-ND; Supplier 1: Digi-Key
footprint RES0805 (Chip Resistor, 2-Leads, Body 2.00x1.25mm, IPC High Density)
pins: 1, 2
text: 0805

## RES_15mΩ_2512_1%
designator R?  value 15mΩ
RES 15 mOHM 1% 2W 2512; Manufacturer 1: Yageo; Manufacturer Part Number 1: PE2512FKE7W0R015L; Supplier 1: Digi-Key; Supplier Part Number 1: YAG2165CT-ND
footprint RESC6532X75N
pins: 1, 2
text: 2512

## RES_16.9kΩ_0603_1%
designator R?  value 16.9kΩ
RES 16.9K OHM 1% 1/10W 0603; Manufacturer 1: Yageo; Manufacturer Part Number 1: RC0603FR-0716K9L; Supplier 1: Digi-Key; Supplier Part Number 1: 311-16.9KHRCT-ND
footprint RES0603 (Chip Resistor, Body 1.6x0.8mm, IPC Medium Density)
pins: 1, 2
text: 0603

## RES_16.9kΩ_0805_1%
designator R?  value 16.9kΩ
RES 16.9K OHM 1% 1/8W 0805; Manufacturer 1: Yageo; Manufacturer Part Number 1: RC0805FR-0716K9L; Supplier 1: Digi-Key; Supplier Part Number 1: 311-16.9KCRCT-ND; Mounting Type: SMD; LCSC Part #: C17484; Package: 0805
footprint RES0805 (Chip Resistor, 2-Leads, Body 2.00x1.25mm, IPC High Density)
pins: 1, 2

## RES_16mΩ_1206_1%
designator R?  value 16mΩ
RES 16 mOHM 1W 1206 WIDE; Manufacturer 1: Susumu; Manufacturer Part Number 1: PRL1632-R016-F-T1; Supplier 1: Digi-Key; Supplier Part Number 1: PRL1632.016FCT-ND
footprint RES0603 (Chip Resistor, Body 1.6x0.8mm, IPC Medium Density)
pins: 1, 2
text: 1206

## RES_18.7kΩ_0603_1%
designator R?  value 18.7kΩ
RES 18.7K OHM 1% 1/10W 0603; Manufacturer 1: Vishay Dale; Manufacturer Part Number 1: CRCW060318K7FKEA; Supplier Part Number 1: 541-18.7KHCT-ND; Supplier 1: Digi-Key
footprint RES0603 (Chip Resistor, Body 1.6x0.8mm, IPC Medium Density)
pins: 1, 2
text: 0603

## RES_18.7kΩ_0805_1%
designator R?  value 18.7kΩ
RES 18.7K OHM 1% 1/8W 0805 /; Manufacturer 1: Yageo; Manufacturer Part Number 1: RC0805FR-0718K7L; Package/Footprint: 0805; Supplier Part Number 1: 311-18.7KCRCT-ND; Mounting Type: SMD; Supplier 1: Digi-Key; LCSC Part #: C17499
footprint RES0805 (Chip Resistor, 2-Leads, Body 2.00x1.25mm, IPC High Density)
pins: 1, 2

## RES_19.6kΩ_0805_1%
designator R?  value 19.6kΩ
RES SMD 19.6K OHM 1% 1/8W 0805; Manufacturer 1: Yageo; Manufacturer Part Number 1: AC0805FR-0719K6L; Package/Footprint: 0805; Supplier 1: Digi-Key; Mounting Type: SMD; Supplier Part Number 1: YAG5355CT-ND
footprint RES0805 (Chip Resistor, 2-Leads, Body 2.00x1.25mm, IPC High Density)
pins: 1, 2

## RES_20kΩ_0402_1%
designator R?  value 20kΩ
RES 20K OHM 1% 1/16W 0402; Manufacturer Part Number 1: RC0402FR-0720KL; Manufacturer 1: Yageo; Power: 0.063W, 1/16W; Supplier 1: Digi-Key; Supplier Part Number 1: 311-20.0KLRCT-ND; Mounting Type: SMD; Package: 0402; Tolerance: 1%
footprint RES0402 (Chip Resistor, Body 1x0.5mm, IPC Medium Density)
pins: 1, 2

## RES_20kΩ_0603_1%
designator R?  value 20kΩ
RES 20K OHM 1% 1/10W 0603; Manufacturer 1: Yageo; Manufacturer Part Number 1: RC0603FR-0720KL; Supplier Part Number 1: 311-20.0KHRCT-ND; Supplier 1: Digi-Key
footprint RES0603 (Chip Resistor, Body 1.6x0.8mm, IPC Medium Density)
pins: 1, 2
text: 0603

## RES_20kΩ_0805_1%
designator R?  value 20kΩ
RES 20K OHM 1% 1/8W 0805; Manufacturer 1: Yageo; Manufacturer Part Number 1: RC0805FR-0720KL; Package/Footprint: 0805; Supplier 1: Digi-Key; Mounting Type: SMD; Supplier Part Number 1: 311-20.0KCRCT-ND; LCSC Part #: C4328
footprint RES0805 (Chip Resistor, 2-Leads, Body 2.00x1.25mm, IPC High Density)
pins: 1, 2

## RES_20mΩ_2512_1%
designator R?  value 20mΩ
RES 0.02 OHM 1% 3W 2512; Manufacturer 1: Riedon; Manufacturer Part Number 1: CSRL3-0R02F8; Supplier 1: Digi-Key; Supplier Part Number 1: 696-1840-1-ND; Mounting Type: Surface Mount; Package: 2512
footprint RESC6532X75N
pins: 1, 2

## RES_20Ω_0603_5%
designator R?  value 20Ω
RES 20 OHM 5% 1/10W 0603; Manufacturer 1: Yageo; Manufacturer Part Number 1: RC0603JR-0720RL; Supplier Part Number 1: 311-20GRCT-ND; Supplier 1: Digi-Key; Mounting Type: SMD; Package: 0603
footprint RES0603 (Chip Resistor, Body 1.6x0.8mm, IPC Medium Density)
pins: 1, 2

## RES_20Ω_0805_1%
designator R?  value 20Ω
RES 20 OHM 1% 1/8W 0805; Manufacturer 1: Yageo; Manufacturer Part Number 1: RC0805FR-0720RL; Supplier 1: Digi-Key; Mounting Type: SMD; Supplier Part Number 1: 311-20.0CRCT-ND; LCSC Part #: C17581; Package: 0805
footprint RES0805 (Chip Resistor, 2-Leads, Body 2.00x1.25mm, IPC High Density)
pins: 1, 2

## RES_22.1kΩ_0805_1%
designator R?  value 22.1kΩ
RES 22.1K OHM 1% 1/8W 0805; Manufacturer 1: Vishay Dale; Manufacturer Part Number 1: CRCW080522K1FKEA; Supplier 1: Digi-Key; Supplier Part Number 1: 541-22.1KCCT-ND
footprint RES0805 (Chip Resistor, 2-Leads, Body 2.00x1.25mm, IPC High Density)
pins: 1, 2
text: 0805

## RES_22mΩ_2512_1%
designator R?  value 22mΩ
RES 22 mOHM 1% 2W 2512; Manufacturer 1: Yageo; Manufacturer Part Number 1: PE2512FKE7W0R022L; Supplier 1: Digi-Key; Supplier Part Number 1: YAG2168CT-ND
footprint RESC6532X75N
pins: 1, 2
text: 2512

## RES_23.7kΩ_0402_1%
designator R?  value 23.7kΩ
RES 23.7K OHM 1% 1/16W 0402; Manufacturer Part Number 1: RMCF0402FT23K7; Manufacturer 1: Stackpole Electronics Inc; Power: 0.063W, 1/16W; Package/Footprint: 0402; Supplier 1: Digi-Key; Supplier Part Number 1: RMCF0402FT23K7CT-ND; Mounting Type: SMD; Tolerance: 1%
footprint RES0402 (Chip Resistor, Body 1x0.5mm, IPC Medium Density)
pins: 1, 2

## RES_23.7kΩ_0805_1%
designator R?  value 23.7kΩ
RES 1.07K OHM 1% 1/8W 0805; Manufacturer 1: Yageo; Manufacturer Part Number 1: RC0805FR-0723K7L; Supplier 1: Digi-Key; Mounting Type: SMD; Supplier Part Number 1: 311-23.7KCRDKR-ND; Package: 0805
footprint RES0805 (Chip Resistor, 2-Leads, Body 2.00x1.25mm, IPC High Density)
pins: 1, 2

## RES_24.3kΩ_0805_1%
designator R?  value 24.3kΩ
RES 24.3K OHM 1% 1/8W 0805; Manufacturer 1: YAGEO; Manufacturer Part Number 1: RC0805FR-0724K3L; Power: 0.125W; Package: 0805; Tolerance: 1%; Supplier 1: Future Electronics
footprint RES0603 (Chip Resistor, Body 1.6x0.8mm, IPC Medium Density)
footprint RES0805 (Chip Resistor, 2-Leads, Body 2.00x1.25mm, IPC High Density)
pins: 1, 2

## RES_24kΩ_0402_1%
designator R?  value 24kΩ
RES 24K OHM 1% 1/16W 0402; Manufacturer Part Number 1: RC0402FR-0724KL; Manufacturer 1: Yageo; Power: 0.063W, 1/16W; Package/Footprint: 0402; Supplier 1: Digi-Key; Supplier Part Number 1: 311-24KLRCT-ND; Mounting Type: SMD; Tolerance: 1%
footprint RES0402 (Chip Resistor, Body 1x0.5mm, IPC Medium Density)
pins: 1, 2

## RES_24mΩ_0805_1%
designator R?  value 0.024Ω  Power: 0.75W
RES 0.024 OHM 1% 3/4W 0805; Manufacturer 1: Thin Film Technology Corp.; Manufacturer Part Number 1: D1WEL0805MR024F-T5; Supplier 1: Digi-Key; Supplier Part Number 1: 4463-D1WEL0805MR024F-T5CT-ND; Package: 0805
footprint RES0805 (Chip Resistor, 2-Leads, Body 2.00x1.25mm, IPC High Density)
pins: 1, 2

## RES_26.7kΩ_0603_1%
designator R?  value 26.7kΩ
RES 26.7K OHM 1% 1/10W 0603; Manufacturer 1: Yageo; Manufacturer Part Number 1: RC0603FR-0726K7L; Supplier Part Number 1: 311-26.7KHRCT-ND; Supplier 1: Digi-Key
footprint RES0603 (Chip Resistor, Body 1.6x0.8mm, IPC Medium Density)
pins: 1, 2
text: 0603

## RES_26.7kΩ_0805_1%
designator R?  value 26.7kΩ
RES 26.7K OHM 1% 1/8W 0805; Manufacturer 1: Panasonic Electronic Components; Manufacturer Part Number 1: ERJ-6ENF2672V; Supplier Part Number 1: P26.7KCCT-ND; Supplier 1: Digi-Key; Mounting Type: SMD; LCSC Part #: C17581; Package: 0805
footprint RES0805 (Chip Resistor, 2-Leads, Body 2.00x1.25mm, IPC High Density)
pins: 1, 2

## RES_27Ω_0603_5%
designator R?  value 27Ω
RES 27 OHM 5% 1/10W 0603; Manufacturer 1: Yageo; Manufacturer Part Number 1: RC0603JR-0727RL; Supplier 1: Digi-Key; Mounting Type: SMD; Supplier Part Number 1: 311-27GRCT-ND; Package: 0603
footprint RES0603 (Chip Resistor, Body 1.6x0.8mm, IPC Medium Density)
pins: 1, 2

## RES_27Ω_0805_1%
designator R?  value 27Ω
RES 27 OHM 1% 1/8W 0805; Manufacturer 1: Yageo; Manufacturer Part Number 1: RC0805FR-0727RL; Supplier 1: Digi-Key; Supplier Part Number 1: 311-27.0CRCT-ND; Package: 0805; Tolerance: 1%
footprint RES0805 (Chip Resistor, 2-Leads, Body 2.00x1.25mm, IPC High Density)
pins: 1, 2

## RES_30.9kΩ_0805_1%
designator R?  value 30.9kΩ
RES 30.9K OHM 1% 1/8W 0805; Manufacturer 1: Stackpole Electronics Inc; Manufacturer Part Number 1: RMCF0805FT30K9; Supplier 1: Digi-Key; Supplier Part Number 1: RMCF0805FT30K9CT-ND; Package: 0805
footprint RES0805 (Chip Resistor, 2-Leads, Body 2.00x1.25mm, IPC High Density)
pins: 1, 2

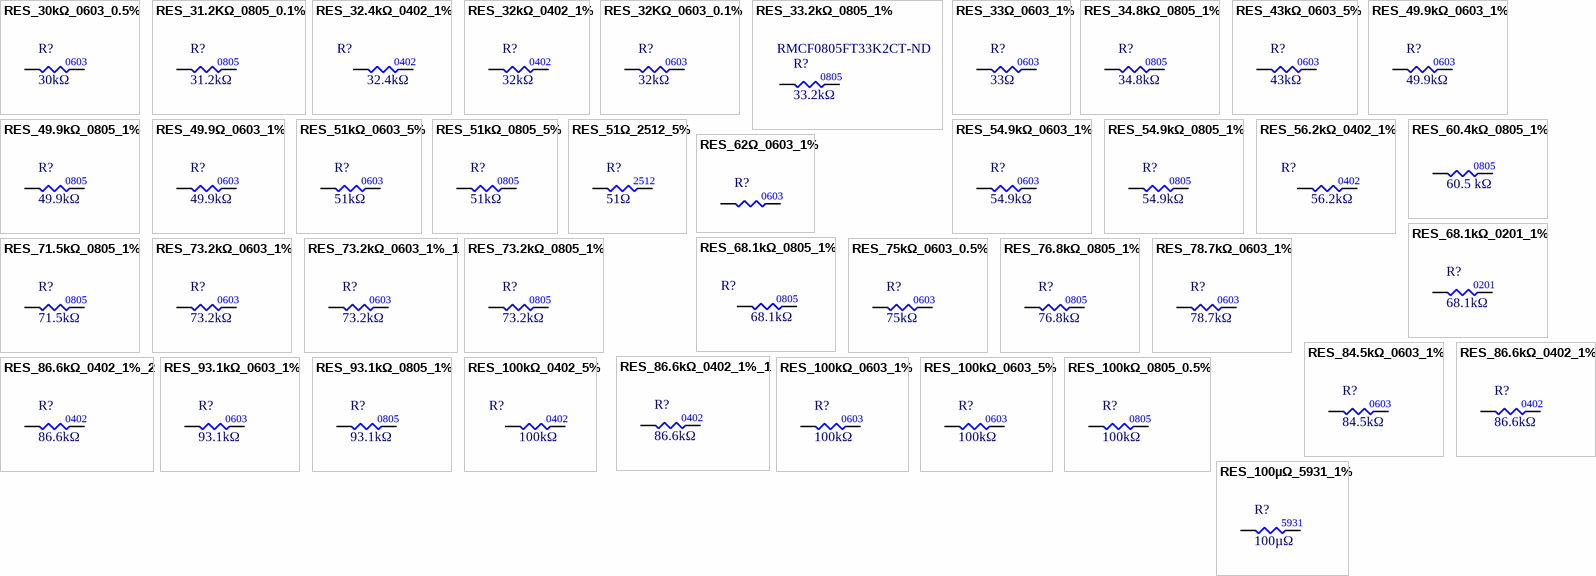
[diagram p20: symbols RES_30kΩ_0603_0.5% to RES_100µΩ_5931_1%]

## RES_30kΩ_0603_0.5%
designator R?  value 30kΩ
RES 30K OHM 0.5% 1/10W 0603; Manufacturer 1: Yageo; Manufacturer Part Number 1: RT0603DRD0730KL; Supplier Part Number 1: 311-30KDCT-ND; Supplier 1: Digi-Key; Package: 0603; Tolerance: 0.5%
footprint RES0603 (Chip Resistor, Body 1.6x0.8mm, IPC Medium Density)
pins: 1, 2

## RES_31.2KΩ_0805_0.1%
designator R?  value 31.2kΩ
RES 31.2K OHM 0.1% 1/8W 0805; Manufacturer 1: Yageo; Manufacturer Part Number 1: RT0805BRD0731K2L; Supplier Part Number 1: 13-RT0805BRD0731K2LCT-ND; Supplier 1: Digi-Key; Mounting Type: SMD; Package: 0805
footprint RES0603 (Chip Resistor, Body 1.6x0.8mm, IPC Medium Density)
footprint CAP0805 (Chip Capacitor, Body 2.0x1.2mm, Height 0.45mm, IPC Medium Density)
footprint RES0805 (Chip Resistor, 2-Leads, Body 2.00x1.25mm, IPC High Density)
pins: 1, 2

## RES_32.4kΩ_0402_1%
designator R?  value 32.4kΩ
RES 32.4K OHM 1% 1/10W 0402; Manufacturer Part Number 1: ERJ-2RKF3242X; Manufacturer 1: Panasonic Electronic Components; Power: 0.1W, 1/10W; Package/Footprint: 0402; Supplier 1: Digi-Key; Supplier Part Number 1: P32.4KLCT-ND; Mounting Type: SMD; Tolerance: 1%
footprint RES0402 (Chip Resistor, Body 1x0.5mm, IPC Medium Density)
pins: 1, 2

## RES_32kΩ_0402_1%
designator R?  value 32kΩ
RES 32K OHM 1% 1/16W 0402; Manufacturer 1: Vishay Dale; Manufacturer Part Number 1: RN73H1ETTP3202F50; Package/Footprint: 0402; Supplier 1: Digi-Key; Supplier Part Number 1: 2019-RN73H1ETTP3202F50CT-ND; Tolerance: 1%
footprint RES0402 (Chip Resistor, Body 1x0.5mm, IPC Medium Density)
pins: 1, 2

## RES_32KΩ_0603_0.1%
designator R?  value 32kΩ
RES SMD 32K OHM 0.1% 1/10W 0603; Manufacturer 1: Yageo; Manufacturer Part Number 1: RT0603BRD0732KL; Supplier Part Number 1: 13-RT0603BRD0732KLCT-ND; Supplier 1: Digi-Key; Mounting Type: SMD; Package: 0603
footprint RES0603 (Chip Resistor, Body 1.6x0.8mm, IPC Medium Density)
pins: 1, 2

## RES_33.2kΩ_0805_1%
designator R?  value 33.2kΩ  Supplier Part Number 1: RMCF0805FT33K2CT-ND
RES 33.2K OHM 1% 1/8W 0805; Manufacturer 1: Stackpole Electronics Inc; Manufacturer Part Number 1: RMCF0805FT33K2; Package/Footprint: 0805; Mounting Type: SMD; Supplier 1: Digi-Key
footprint RES0805 (Chip Resistor, 2-Leads, Body 2.00x1.25mm, IPC High Density)
pins: 1, 2

## RES_33Ω_0603_1%
designator R?  value 33Ω
RES 33 OHM 1% 1/10W 0603; Manufacturer 1: Vishay; Manufacturer Part Number 1: CRCW060333R0FKEA; Supplier 1: Digi-Key; Mounting Type: SMD; Supplier Part Number 1: 541-33.0HCT-ND; Package: 0603
footprint RES0603 (Chip Resistor, Body 1.6x0.8mm, IPC Medium Density)
pins: 1, 2

## RES_34.8kΩ_0805_1%
designator R?  value 34.8kΩ
RES 34.8K OHM 1% 1/8W 0805; Manufacturer 1: Stackpole Electronics Inc; Manufacturer Part Number 1: RMCF0805FT34K8; Supplier 1: Digi-Key; Supplier Part Number 1: RMCF0805FT34K8CT-ND; Package: 0805
footprint RES0805 (Chip Resistor, 2-Leads, Body 2.00x1.25mm, IPC High Density)
pins: 1, 2

## RES_43kΩ_0603_5%
designator R?  value 43kΩ
RES 43K OHM 5% 1/10W 0603; Manufacturer 1: Yageo; Manufacturer Part Number 1: RC0603JR-0743KL; Supplier Part Number 1: 311-43KGRCT-ND; Supplier 1: Digi-Key
footprint RES0603 (Chip Resistor, Body 1.6x0.8mm, IPC Medium Density)
pins: 1, 2
text: 0603

## RES_49.9kΩ_0603_1%
designator R?  value 49.9kΩ
RES 49.9K OHM 1% 1/10W 0603; Manufacturer Part Number 1: RK73H1JTTD4992F; Manufacturer 1: KOA Speer Electronics, Inc.; Supplier 1: Digi-Key; Supplier Part Number 1: 2019-RK73H1JTTD4992FCT-ND; Mounting Type: SMD
footprint RES0603 (Chip Resistor, Body 1.6x0.8mm, IPC Medium Density)
pins: 1, 2
text: 0603

## RES_49.9kΩ_0805_1%
designator R?  value 49.9kΩ
RES 49.9K OHM 1% 1/8W 0805; Manufacturer 1: Vishay Dale; Manufacturer Part Number 1: TNPW080549K9BEEN; Package/Footprint: 0805; Supplier 1: Digi-Key; Mounting Type: SMD; Supplier Part Number 1: 541-3802-1-ND; LCSC Part #: C17719
footprint RES0805 (Chip Resistor, 2-Leads, Body 2.00x1.25mm, IPC High Density)
pins: 1, 2

## RES_49.9Ω_0603_1%
designator R?  value 49.9kΩ
RES 49.9 OHM 1% 1/10W 0603; Manufacturer 1: Yageo; Manufacturer Part Number 1: RC0603FR-0749R9L; Supplier 1: Digi-Key; Supplier Part Number 1: 311-49.9HRDKR-ND
footprint RES0603 (Chip Resistor, Body 1.6x0.8mm, IPC Medium Density)
pins: 1, 2
text: 0603

## RES_51kΩ_0603_5%
designator R?  value 51kΩ
RES 51K OHM 5% 1/10W 0603; Manufacturer 1: Yageo; Manufacturer Part Number 1: RC0603JR-0751KL; Supplier Part Number 1: 311-51KGRCT-ND; Supplier 1: Digi-Key
footprint RESC0603(1608)_N (Chip Resistor, Body 1.6x0.8mm, IPC Medium Density)
pins: 1, 2
text: 0603

## RES_51kΩ_0805_5%
designator R?  value 51kΩ
RES 51K OHM 1% 1/8W 0805; Manufacturer 1: Vishay Dale; Manufacturer Part Number 1: CRCW080551K0FKEA; Supplier 1: Digi-Key; Supplier Part Number 1: 541-51.0KCCT-ND
footprint RESC2012X60N
footprint CAP0805 (Chip Capacitor, Body 2.0x1.2mm, Height 0.45mm, IPC Medium Density)
footprint RES0805 (Chip Resistor, 2-Leads, Body 2.00x1.25mm, IPC High Density)
pins: 1, 2
text: 0805

## RES_51Ω_2512_5%
designator R?  value 51Ω
RES 51 OHM 5% 2W 2512; Manufacturer 1: Bourns Inc.; Manufacturer Part Number 1: CRM2512-JW-510ELF; Supplier 1: Digi-Key; Supplier Part Number 1: 118-CRM2512-JW-510ELFCT-ND
footprint RESC6532X75N
pins: 1, 2
text: 2512

## RES_54.9kΩ_0603_1%
designator R?  value 54.9kΩ
RES 54.9K OHM 1% 1/10W 0603; Manufacturer 1: Vishay Dale; Manufacturer Part Number 1: CRCW060354K9FKEA; Package/Footprint: 0603; Supplier 1: Digi-Key; Supplier Part Number 1: 541-54.9KHCT-ND
footprint RES0603 (Chip Resistor, Body 1.6x0.8mm, IPC Medium Density)
pins: 1, 2

## RES_54.9kΩ_0805_1%
designator R?  value 54.9kΩ
RES 54.9K OHM 1% 1/8W 0805; Manufacturer 1: Panasonic Electronic Components; Manufacturer Part Number 1: ERJ-6ENF5492V; Package/Footprint: 0805; Supplier 1: Digi-Key; Supplier Part Number 1: P54.9KCCT-ND
footprint RES0805 (Chip Resistor, 2-Leads, Body 2.00x1.25mm, IPC High Density)
pins: 1, 2

## RES_56.2kΩ_0402_1%
designator R?  value 56.2kΩ
RES 56.2K OHM 1% 1/16W 0402; Manufacturer Part Number 1: RC0402FR-0756K2L; Manufacturer 1: Yageo; Power: 0.063W, 1/16W; Package/Footprint: 0402; Supplier 1: Digi-Key; Supplier Part Number 1: YAG3187CT-ND; Mounting Type: SMD; Tolerance: 1%
footprint RES0402 (Chip Resistor, Body 1x0.5mm, IPC Medium Density)
pins: 1, 2

## RES_60.4kΩ_0805_1%
designator R?  value 60.5 kΩ
RES 60.5 kOHM 63 mW 0805; Manufacturer 1: Vishay Dale; Manufacturer Part Number 1: RCS080560K4FKEA; Package/Footprint: 0805; Supplier Part Number 1: 541-RCS080560K4FKEADKR-ND; Supplier 1: Digi-Key; Mounting Type: SMD
footprint RES0805 (Chip Resistor, 2-Leads, Body 2.00x1.25mm, IPC High Density)
pins: 1, 2

## RES_62Ω_0603_1%
designator R?
RES 62 OHM 1% 1/10W 0603; Manufacturer: Vishay; Manufacturer Part Number 1: CRCW060362R0FKEA; Value: 62Ω; Supplier 1: Digi-Key; Supplier Part Number 1: 541-62.0HCT-ND; Package: 0603
pins: 1, 2

## RES_68.1kΩ_0201_1%
designator R?  value 68.1kΩ
RES 68.1K OHM 1% 1/20W 0201; Manufacturer 1: Panasonic Electronic Components; Manufacturer Part Number 1: ERJ-1GNF6812C; Supplier 1: Digi-Key; Supplier Part Number 1: P123130CT-ND; Package: 0201
footprint RES0201 (Chip Resistor, Body 0.6x0.3mm, IPC Medium Density)
pins: 1, 2

## RES_68.1kΩ_0805_1%
designator R?  value 68.1kΩ
RES 68.1K OHM 1% 1/8W 0805; Manufacturer 1: YAGEO; Manufacturer Part Number 1: RC0805FR-0768K1L; Package/Footprint: 0805; Supplier Part Number 1: 311-68.1KCRCT-ND; Supplier 1: Digi-Key; Mounting Type: SMD
footprint RES0805 (Chip Resistor, 2-Leads, Body 2.00x1.25mm, IPC High Density)
pins: 1, 2

## RES_71.5kΩ_0805_1%
designator R?  value 71.5kΩ
RES 71.5K OHM 1% 1/8W 0805; Manufacturer 1: Yageo; Manufacturer Part Number 1: RC0805FR-0771K5L; Package/Footprint: 0805; Mounting Type: SMD; Supplier 1: Digi-Key; Supplier Part Number 1: 311-71.5KCRCT-ND
footprint RES0805 (Chip Resistor, 2-Leads, Body 2.00x1.25mm, IPC High Density)
pins: 1, 2

## RES_73.2kΩ_0603_1%
designator R?  value 73.2kΩ
RES 73.2K OHM 1% 1/10W 0603; Manufacturer 1: YAGEO; Manufacturer Part Number 1: RC0603FR-0773K2L; Power: 0.1W; Supplier Part Number 1: 311-73.2KHRCT-ND; Supplier 1: Digi-Key; Package: 0603; Tolerance: 1%
footprint RES0603 (Chip Resistor, Body 1.6x0.8mm, IPC Medium Density)
pins: 1, 2

## RES_73.2kΩ_0603_1%_1
designator R?  value 73.2kΩ
RES 73.2K OHM 1% 1/16W 0603; Manufacturer 1: TE Connectivity Passive Product; Manufacturer Part Number 1: CPF0603F73K2C1; Supplier Part Number 1: A102314CT-ND; Supplier 1: Digi-Key
footprint RES0603 (Chip Resistor, Body 1.6x0.8mm, IPC Medium Density)
pins: 1, 2
text: 0603

## RES_73.2kΩ_0805_1%
designator R?  value 73.2kΩ
RES 73.2K OHM 1% 1/8W 0805; Manufacturer 1: Yageo; Manufacturer Part Number 1: RC0805FR-0773K2L; Package/Footprint: 0805; Mounting Type: SMD; Supplier 1: Digi-Key; Supplier Part Number 1: 311-73.2KCRCT-ND
footprint RES0805 (Chip Resistor, 2-Leads, Body 2.00x1.25mm, IPC High Density)
pins: 1, 2

## RES_75kΩ_0603_0.5%
designator R?  value 75kΩ
RES 75K OHM 0.5% 1/10W 0603; Manufacturer 1: Yageo; Manufacturer Part Number 1: RT0603DRD0775KL; Supplier Part Number 1: 311-75KDCT-ND; Supplier 1: Digi-Key
footprint RES0603 (Chip Resistor, Body 1.6x0.8mm, IPC Medium Density)
pins: 1, 2
text: 0603

## RES_76.8kΩ_0805_1%
designator R?  value 76.8kΩ
RES 76.8K OHM 1% 1/8W 0805; Manufacturer 1: Yageo; Manufacturer Part Number 1: RC0805FR-0776K8L; Supplier Part Number 1: 311-76.8KCRCT-ND; Supplier 1: Digi-Key
footprint RES0603 (Chip Resistor, Body 1.6x0.8mm, IPC Medium Density)
footprint RES0805 (Chip Resistor, 2-Leads, Body 2.00x1.25mm, IPC High Density)
pins: 1, 2
text: 0805

## RES_78.7kΩ_0603_1%
designator R?  value 78.7kΩ
RES 78.7K OHM 1% 1/10W 0603; Manufacturer 1: Yageo; Manufacturer Part Number 1: RC0603FR-0778K7L; Supplier Part Number 1: 311-78.7KHRCT-ND; Supplier 1: Digi-Key
footprint RES0603 (Chip Resistor, Body 1.6x0.8mm, IPC Medium Density)
pins: 1, 2
text: 0603

## RES_84.5kΩ_0603_1%
designator R?  value 84.5kΩ
RES 84.5K OHM 1% 1/10W 0603; Manufacturer 1: Yageo; Manufacturer Part Number 1: RC0603FR-0784K5L; Supplier Part Number 1: 311-84.5KHRCT-ND; Supplier 1: Digi-Key
footprint RES0603 (Chip Resistor, Body 1.6x0.8mm, IPC Medium Density)
pins: 1, 2
text: 0603

## RES_86.6kΩ_0402_1%
designator R?  value 86.6kΩ
RES SMD 86.6K OHM 1% 1/16W 0402; Manufacturer Part Number 1: RC0402FR-0786K6L; Manufacturer 1: Yageo; Power: 0.063W, 1/16W; Package/Footprint: 0402; Supplier 1: Digi-Key; Supplier Part Number 1: YAG3249CT-ND; Mounting Type: SMD; Tolerance: 1%
footprint RES0402 (Chip Resistor, Body 1x0.5mm, IPC Medium Density)
pins: 1, 2

## RES_86.6kΩ_0402_1%_1
designator R?  value 86.6kΩ
RES SMD 86.6K OHM 1% 1/16W 0402; Manufacturer Part Number 1: RC0402FR-0786K6L; Manufacturer 1: Yageo; Power: 0.063W, 1/16W; Package/Footprint: 0402; Supplier 1: Digi-Key; Supplier Part Number 1: YAG3249CT-ND; Mounting Type: SMD; Tolerance: 1%
footprint RES0402 (Chip Resistor, Body 1x0.5mm, IPC Medium Density)
pins: 1, 2

## RES_86.6kΩ_0402_1%_2
designator R?  value 86.6kΩ
RES SMD 86.6K OHM 1% 1/16W 0402; Manufacturer Part Number 1: RC0402FR-0786K6L; Manufacturer 1: Yageo; Power: 0.063W, 1/16W; Package/Footprint: 0402; Supplier 1: Digi-Key; Supplier Part Number 1: YAG3249CT-ND; Mounting Type: SMD; Tolerance: 1%
footprint RES0402 (Chip Resistor, Body 1x0.5mm, IPC Medium Density)
pins: 1, 2